# Altium footprint library amc1200-footprint.PcbLib: 1 footprints
Each footprint in its own frame and in the unit in brackets; x right, y up, seen from the top. Pads: shape width x height; smd on the part's side, far side on the other; paste and mask are expansions set on the pad; w line width, h text height; cw(c..) or ccw(c..) is an arc to the next point about the centre after c.
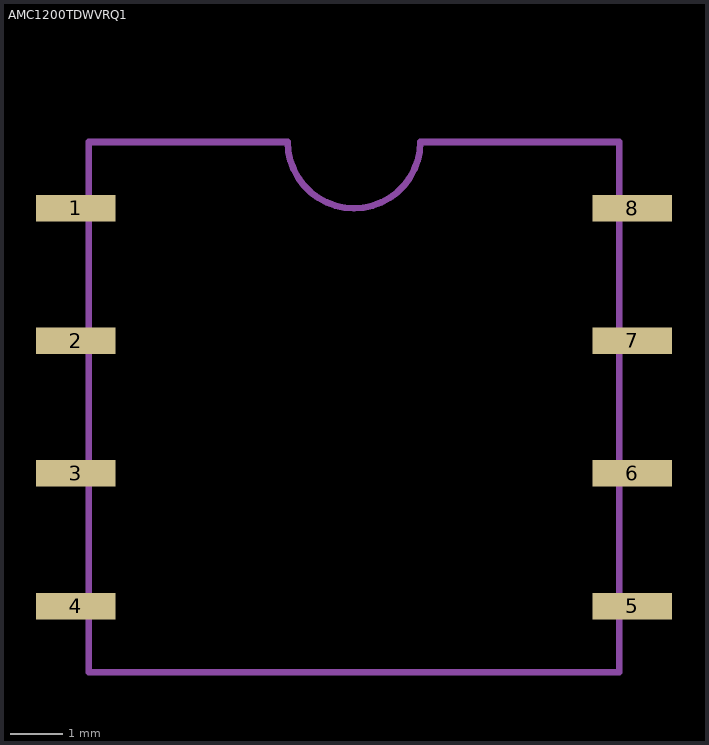
[diagram p0: the footprint, top view; thin cyan lines are the x and y axes]

## AMC1200TDWVRQ1 [mil] "IC OPAMP ISOLATION 100KHZ 8SOIC"
pads (8):
  rect 60x20 all layers, no hole: 1(-47960,-48300) 2(-47960,-48400) 3(-47960,-48500) 4(-47960,-48600) 5(-47540,-48600) 6(-47540,-48500) 7(-47540,-48400) 8(-47540,-48300)
Mechanical 1:
  lines w5: -47950,-48650 -47950,-48250 -47800,-48250 ccw(c-47750,-48250) -47750,-48300 ccw(c-47750,-48250) -47700,-48250 -47550,-48250 -47550,-48650 -47950,-48650
3D body: height 190.94, standoff 0, extent -47954.72,-48637.01 -47545.28,-48262.99